# EAGLE library part RESISTOR_NETWORK_X4 (library PiezoFFC)
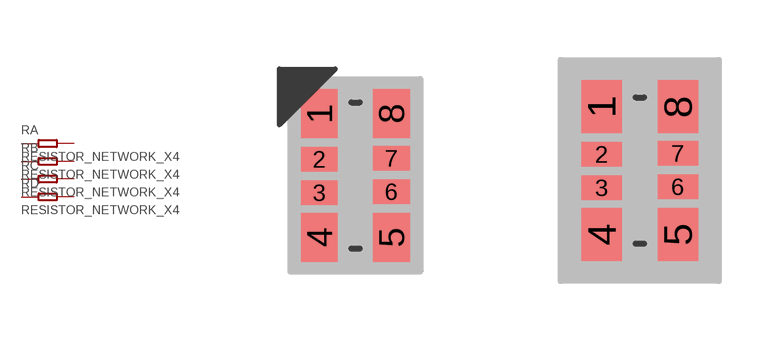
[diagram p17: symbol with the pads of STA_RAVF164; footprints STA_RAVF164, STA_RAVF164-M]

Designator prefix R; gates A=RES B=RES C=RES D=RES

## RESISTOR_NETWORK_X41206 (MANUFACTURER_PART_NUMBER: RAVF164DJT1K00; VENDOR: Stackpole International)  [STA_RAVF164]
1  A:1  pas
2  B:1  pas
3  C:1  pas
4  D:1  pas
5  D:2  pas
6  C:2  pas
7  B:2  pas
8  A:2  pas

## RESISTOR_NETWORK_X41206_STA_RAVF164-M (MANUFACTURER_PART_NUMBER: RAVF164DJT1K00; VENDOR: Stackpole International)  [STA_RAVF164-M]
Pads as for STA_RAVF164

## RESISTOR_NETWORK_X41206_STA_RAVF164-L (MANUFACTURER_PART_NUMBER: RAVF164DJT1K00; VENDOR: Stackpole International)  [STA_RAVF164-L]
Pads as for STA_RAVF164

## RESISTOR_NETWORK_X40804  [EXBN8V]
Pads as for STA_RAVF164

## RESISTOR_NETWORK_X40804_L  [EXBN8V-L]
Pads as for STA_RAVF164

## RESISTOR_NETWORK_X40804_M  [EXBN8V-M]
Pads as for STA_RAVF164

## Footprint STA_RAVF164 (pad centres in mm)
smd 0.914 x 1.219: 1 -0.902,1.549; 4 -0.902,-1.549; 5 0.902,-1.549; 8 0.902,1.549
smd 0.914 x 0.61: 2 -0.902,0.406; 3 -0.902,-0.432; 6 0.902,-0.406; 7 0.902,0.432

## Footprint STA_RAVF164-M (pad centres in mm)
smd 1.016 x 1.321: 1 -0.953,1.6; 4 -0.953,-1.6; 5 0.953,-1.6; 8 0.953,1.6
smd 1.016 x 0.61: 2 -0.953,0.406; 3 -0.953,-0.432; 6 0.953,-0.406; 7 0.953,0.432

## Footprint STA_RAVF164-L (pad centres in mm)
smd 0.813 x 1.118: 1 -0.851,1.499; 4 -0.851,-1.499; 5 0.851,-1.499; 8 0.851,1.499
smd 0.813 x 0.61: 2 -0.851,0.406; 3 -0.851,-0.432; 6 0.851,-0.406; 7 0.851,0.432

## Footprint EXBN8V (pad centres in mm)
smd 0.657 x 0.3: 1 -0.629,0.75; 2 -0.629,0.25; 3 -0.629,-0.25; 4 -0.629,-0.75; 5 0.629,-0.75; 6 0.629,-0.25; 7 0.629,0.25; 8 0.629,0.75

## Footprint EXBN8V-L (pad centres in mm)
smd 0.556 x 0.3: 1 -0.578,0.75; 2 -0.578,0.25; 3 -0.578,-0.25; 4 -0.578,-0.75; 5 0.578,-0.75; 6 0.578,-0.25; 7 0.578,0.25; 8 0.578,0.75

## Footprint EXBN8V-M (pad centres in mm)
smd 0.759 x 0.3: 1 -0.679,0.75; 2 -0.679,0.25; 3 -0.679,-0.25; 4 -0.679,-0.75; 5 0.679,-0.75; 6 0.679,-0.25; 7 0.679,0.25; 8 0.679,0.75